# Altium footprint library Copy of PcbLib1.PcbLib: 2 footprints
Each footprint in its own frame and in the unit in brackets; x right, y up, seen from the top. Pads: shape width x height; smd on the part's side, far side on the other; paste and mask are expansions set on the pad; w line width, h text height; cw(c..) or ccw(c..) is an arc to the next point about the centre after c.
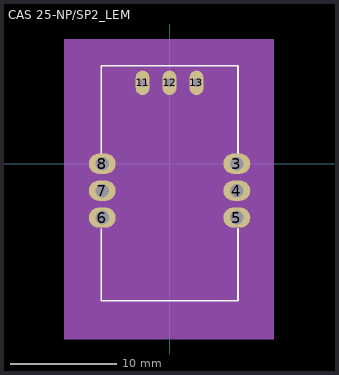
[diagram p0: the footprints below, top view; thin cyan lines are the x and y axes]

## 39910-0104 [mil]
via 200,-279.13 diameter 118.11 hole 59.84
via -200,279.13 diameter 118.11 hole 59.84
via -200,120.87 diameter 118.11 hole 59.84
via 200,520.87 diameter 118.11 hole 59.84
via 200,679.13 diameter 118.11 hole 59.84
via -200,-520.87 diameter 118.11 hole 59.84
via -200,-679.13 diameter 118.11 hole 59.84
via 200,-120.87 diameter 118.11 hole 59.84

## CAS 25-NP/SP2_LEM [mil]
pads (9):
  oval 100x75 hole 51 mask+0: 3(249.61,0) 4(249.61,-100) 7(-249.61,-100) 8(-249.61,0)
  oval 100x75 hole 51 mask+4: 5(249.61,-200) 6(-249.61,-200)
  oval 51x91 hole 32: 11(-100,300) 12(0,300) 13(100,300)
Top Overlay:
  lines w6: -253.94,-241.14 -253.94,-507.87 253.94,-507.87 253.94,-241.14 ; -253.94,37.4 -253.94,362.83 253.94,362.83 253.94,37.4
Mechanical 5:
  region: -390.97,462.6 387.03,462.6 387.03,-650.4 -390.97,-650.4
Mechanical 13:
  lines w1: -268.7,-503.94 -268.7,360.24 272.64,360.24 272.64,-503.94 -268.7,-503.94
  lines w20: 290,-55 cw(c275,-55) 290,-54.95
  text "3" at 278.94,-16.06 h31.5
  text "'.Designator'" at 276.57,374.67 h31.5
Mechanical 15:
  region: 316.85,379.06 -303.15,379.06 -303.15,-503.94 316.85,-503.94
  lines w6: -300.47,-506.31 319.53,-506.31 319.53,376.69 -300.47,376.69 -300.47,-506.31
3D body "CAS 6-15-25-50-NP Blackbox.stp": height 630.42, standoff -156.98, extent -267.72,-503.35 271.65,359.25